# Altium schematic symbol library ICs.SchLib: 74 symbols
Pins are listed as number, name and electrical type; pins without a type are passive.

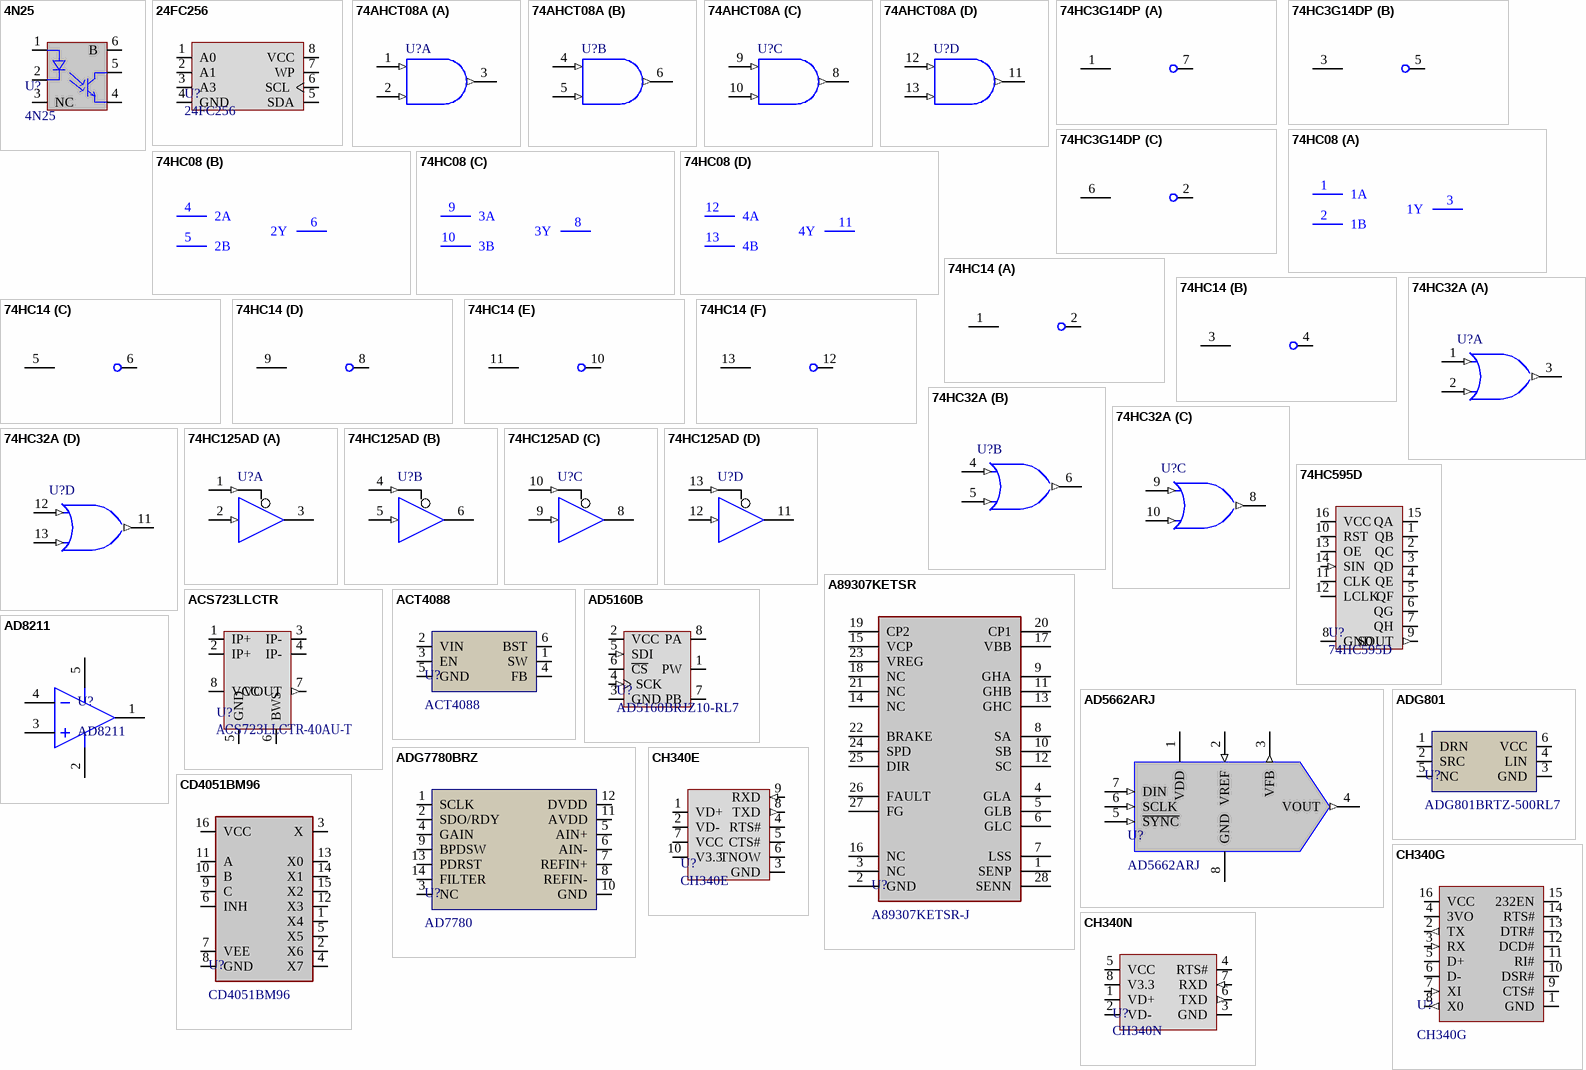
[diagram p0: symbols 4N25 to CH340N]

## 4N25
designator U?
Optoacoplador
footprint PDIP 6W (PDIP 6P WHITE)
pins: 1 A, 2 K, 3 NC, 4 E, 5 C, 6 B

## 24FC256
designator U?
256K I2C Serial EEPROM; ComponentLink1Description: AD5160B Mouser; ComponentLink1URL: https://www.mouser.mx/ProductDetail/Analog-Devices/AD5160BRJZ10-RL7?qs=NmRFExCfTkHhwD179eNY3Q==
footprint PDIP 8 (PDIP 8P IC)
pins: 1 A0, 2 A1, 3 A3, 4 GND (power), 5 SDA (power), 6 SCL (oc), 7 WP (power), 8 VCC (power)

## 74AHCT08A
designator U?
Quadruple 2-Input Positive-AND Gate; Published: 8-Jun-2000; LatestRevisionDate: 04-Mar-2005; LatestRevisionNote: Stylized 3D Model Added.; DatasheetVersion: Oct-1998; PackageVersion: Oct-1995; PackageReference: N014; Publisher: Altium Limited; PackageDescription: DIP; 14 Leads; Row Spacing 7.62 mm; Pitch 2.54 mm; ComponentLink1Description: Manufacturer Link; ComponentLink1URL: http://www.ti.com/; ComponentLink2Description: Datasheet; ComponentLink2URL: http://www-s.ti.com/sc/ds/sn74ahct08.pdf; ComponentLink3Description: Packaging Specification; ComponentLink3URL: http://focus.ti.com/lit/ml/mpdi002c/mpdi002c.pdf
footprint SOIC 14 (SOIC, 14-Leads, Body 8.65x3.90mm, Pitch 1.27mm, IPC Medium Density)
pins on every part: 7 GND (power) hidden to GND, 14 VCC (power) hidden to VCC
part A pins: 1 A (in), 2 B (in), 3 Y (out)
part B pins: 4 A (in), 5 B (in), 6 Y (out)
part C pins: 8 Y (out), 9 A (in), 10 B (in)
part D pins: 11 Y (out), 12 A (in), 13 B (in)

## 74HC3G14DP
designator U?, comment 74HC3G14DP,125
IC INVERT SCHMITT 3CH 3IN 8TSSOP
footprint TSSOP 8 Pin (TSOP, 8-Leads, Body 3.00x3.00mm, Pitch 0.65mm, IPC Medium Density)
pins on every part: 4 GND (power) hidden to GND, 8 VCC (power) hidden to VCC
part A pins: 1 1A, 7 1Y
part B pins: 3 2A, 5 2Y
part C pins: 2 3Y, 6 3A

## 74HC08
designator U?
QUADRUPLE 2-INPUT AND GATES
footprint SOIC 14 (SOIC, 14-Leads, Body 8.65x3.90mm, Pitch 1.27mm, IPC Medium Density)
footprint PDIP 14 (PDIP 14 2.54mm Pitch)
pins on every part: 7 GND (power) hidden to GND, 14 VCC (power) hidden to VCC
part A pins: 1 1A, 2 1B, 3 1Y
part B pins: 4 2A, 5 2B, 6 2Y
part C pins: 8 3Y, 9 3A, 10 3B
part D pins: 11 4Y, 12 4A, 13 4B

## 74HC14
designator U?
Hex Inverters with Schmitt-Trigger Inputs
footprint SOIC 14 (SOIC, 14-Leads, Body 8.65x3.90mm, Pitch 1.27mm, IPC Medium Density)
footprint PDIP 14 (PDIP 14 2.54mm Pitch)
pins on every part: 7 GND (power) hidden to GND, 14 VCC (power) hidden to VCC
part A pins: 1 1A, 2 1Y
part B pins: 3 2A, 4 2Y
part C pins: 5 3A, 6 3Y
part D pins: 8 4Y, 9 4A
part E pins: 10 5Y, 11 5A
part F pins: 12 6Y, 13 6A

## 74HC32A
designator U?
Quadruple 2-Input Positive-OR Gate; Published: 8-Jun-2000; LatestRevisionDate: 13-Apr-2006; LatestRevisionNote: IPC-7351 Footprint Added.; DatasheetVersion: Oct-1998; PackageVersion: Jan-1998; PackageReference: D014; Publisher: Altium Limited; PackageDescription: 14-Pin Small Outline Integrated Circuit 1.27 mm Pitch; Code_IPC: SOIC127P600-14; ComponentLink1Description: Manufacturer Link; ComponentLink1URL: http://www.ti.com/; ComponentLink2Description: Datasheet; ComponentLink2URL: http://www-s.ti.com/sc/ds/sn74ahct32.pdf; ComponentLink3Description: Packaging Specification; ComponentLink3URL: http://focus.ti.com/lit/ml/mpds177/mpds177.pdf
footprint SOIC 14 (SOIC, 14-Leads, Body 8.65x3.90mm, Pitch 1.27mm, IPC Medium Density)
pins on every part: 7 GND (power) hidden to GND, 14 VCC (power) hidden to VCC
part A pins: 1 A (in), 2 B (in), 3 Y (out)
part B pins: 4 A (in), 5 B (in), 6 Y (out)
part C pins: 8 Y (out), 9 A (in), 10 B (in)
part D pins: 11 Y (out), 12 A (in), 13 B (in)

## 74HC125AD
designator U?
Quadruple Bus Buffer Gate with 3-State Outputs; Note: Pins No 1,5,7,11,15 and 17 are not connected; Published: 8-Jun-2000; LatestRevisionDate: 17-Jul-2002; LatestRevisionNote: Re-released for DXP Platform.; DatasheetVersion: May-1997; PackageVersion: 1998; PackageReference: FK020; Publisher: Altium Limited; PackageDescription: Leadless Chip Carrier; 20 Terminals; Body 8.9 x 8.9 mm; ComponentLink1Description: Manufacturer Link; ComponentLink1URL: http://www.ti.com/; ComponentLink2Description: Datasheet; ComponentLink2URL: http://www-s.ti.com/sc/ds/sn74hc125.pdf
footprint SOIC 14 (SOIC, 14-Leads, Body 8.65x3.90mm, Pitch 1.27mm, IPC Medium Density)
pins on every part: 7 GND (power) hidden to GND, 14 VCC (power) hidden to VCC
part A pins: 1 ~{OE} (in), 2 A (in), 3 Y (hiz)
part B pins: 4 ~{OE} (in), 5 A (in), 6 Y (hiz)
part C pins: 8 Y (hiz), 9 A (in), 10 ~{OE} (in)
part D pins: 11 Y (hiz), 12 A (in), 13 ~{OE} (in)

## 74HC595D
designator U?
Shift Register Single 8-Bit Serial to Serial/Parallel 16-Pin SOIC T/R; ComponentLink1Description: Arrow; ComponentLink1URL: https://www.arrow.com/en/products/74hc595d-bj/toshiba
footprint SOIC 16 (SOIC 16P 1.27mm)
pins: 1 QB, 2 QC, 3 QD, 4 QE, 5 QF, 6 QG, 7 QH, 8 GND, 9 SOUT (out), 10 RST, 11 CLK, 12 LCLK, 13 OE (hiz), 14 SIN (in), 15 QA, 16 VCC

## A89307KETSR
designator U?, comment A89307KETSR-J
SENSORLESS 3 PHASE GATE DRIVER W
footprint QFN 5X5 28P (QFN, 28-Leads, Body 4.80x4.80mm, Pitch 0.50mm, Thermal Pad 2.90x2.90mm, IPC Medium Density)
pins: 1 SENP, 2 GND, 3 NC, 4 GLA, 5 GLB, 6 GLC, 7 LSS, 8 SA, 9 GHA, 10 SB, 11 GHB, 12 SC, 13 GHC, 14 NC, 15 VCP, 16 NC, 17 VBB, 18 NC, 19 CP2, 20 CP1, 21 NC, 22 BRAKE, 23 VREG, 24 SPD, 25 DIR, 26 FAULT, 27 FG, 28 SENN

## ACS723LLCTR
designator U?, comment ACS723LLCTR-40AU-T‎
Sensores de corriente 40A 1 canal Efecto Hall, Circuito abierto Unidireccional 8-SOIC
footprint SOIC-8PIN (IC SOIC 8 PIN SMD)
pins: 1 IP+ (power), 2 IP+ (power), 3 IP- (power), 4 IP- (power), 5 GND (power), 6 BWS (power), 7 VOUT (out), 8 VCC (power)

## ACT4088
designator U?
DC-DC Step Down Converter IC
footprint SOT23-6 PINES (SOT23, 6-Leads, Body 2.93x2.83mm, Pitch 0.95mm, IPC Medium Density)
pins: 1 SW, 2 VIN, 3 EN, 4 FB, 5 GND, 6 BST

## AD5160B
designator U?, comment AD5160BRJZ10-RL7
Potenciómetro Digital 256 steps SPI; ComponentLink1Description: AD5160B Mouser; ComponentLink1URL: https://www.mouser.mx/ProductDetail/Analog-Devices/AD5160BRJZ10-RL7?qs=NmRFExCfTkHhwD179eNY3Q==
footprint SOT23-8 PINES (SOT23, 8-Leads, Body 2.93x2.83mm, Pitch 0.95mm, IPC Medium Density)
pins: 1 PW (power), 2 VCC, 3 GND (power), 4 SCK (in), 5 SDI (in), 6 ~{CS}, 7 PB (power), 8 PA (power)

## AD5662ARJ
designator U?
16 Bit Digital to Analog Converter 1 8-MSOP; MP: AD5662ARMZ-1; MF: Analog Devices; Package: MSOP-8 Analog Devices; Check_prices: https://www.snapeda.com/parts/AD5662ARMZ-1/Analog%20Devices/view-part/407851/?ref=eda; Availability: Warning; Price: None; Purchase-URL: https://pricing.snapeda.com/search/part/AD5662ARMZ-1/?ref=eda; Value: *; SnapEDA_Link: https://www.snapeda.com/parts/AD5662ARMZ-1/Analog%20Devices/view-part/407851/?ref=snap
footprint SOT23-8 PINES (SOT23, 8-Leads, Body 2.93x2.83mm, Pitch 0.95mm, IPC Medium Density)
pins: 1 VDD (power), 2 VREF (in), 3 VFB (out), 4 VOUT (out), 5 ~{SYNC} (in), 6 SCLK (in), 7 DIN (in), 8 GND

## AD8211
designator U?
Amplificador de Medición de Corriente
footprint SOT23-5 PINES (SOT23, 5-Leads, Body 2.88x2.83mm, Pitch 0.95mm, IPC Medium Density)
pins: 1 OUT, 2 GND, 3 VIN+, 4 VIN-, 5 VCC

## ADG801
designator U?, comment ADG801BRTZ-500RL7
1:1 Digital Switch
footprint SOT23-6 PINES (SOT23, 6-Leads, Body 2.93x2.83mm, Pitch 0.95mm, IPC Medium Density)
pins: 1 DRN, 2 SRC, 3 GND, 4 LIN, 5 NC, 6 VCC

## ADG7780BRZ
designator U?, comment AD7780
ADC 24 BITS SIGMA-DELTA
footprint SOIC 14 (SOIC, 14-Leads, Body 8.65x3.90mm, Pitch 1.27mm, IPC Medium Density)
pins: 1 SCLK, 2 SDO/RDY, 3 NC, 4 GAIN, 5 AIN+, 6 AIN-, 7 REFIN+, 8 REFIN-, 9 BPDSW, 10 GND, 11 AVDD, 12 DVDD, 13 PDRST, 14 FILTER

## CD4051BM96
designator U?
MUX/DEMUX SOIC16
footprint SOIC 16 (SOIC 16P 1.27mm)
pins: 1 X4, 2 X6, 3 X, 4 X7, 5 X5, 6 INH, 7 VEE, 8 GND, 9 C, 10 B, 11 A, 12 X3, 13 X0, 14 X1, 15 X2, 16 VCC

## CH340E
designator U?
Convertidor USB Serial
footprint MSOP-10 (TSSOP, 10-Leads, Body 3.00x3.05mm, Pitch 0.50mm, IPC Medium Density)
pins: 1 VD+, 2 VD-, 3 GND, 4 RTS#, 5 CTS#, 6 TNOW, 7 VCC, 8 TXD (out), 9 RXD (in), 10 V3.3

## CH340G
designator U?
USB-Serial Converter
footprint SOIC 16 (SOIC 16P 1.27mm)
pins: 1 GND, 2 TX (out), 3 RX (in), 4 3VO, 5 D+, 6 D-, 7 XI (in), 8 X0 (out), 9 CTS#, 10 DSR#, 11 RI#, 12 DCD#, 13 DTR#, 14 RTS#, 15 232EN, 16 VCC

## CH340N
designator U?
Convertidor USB Serial
footprint SOIC-8PIN (IC SOIC 8 PIN SMD)
pins: 1 VD+, 2 VD-, 3 GND, 4 RTS#, 5 VCC, 6 TXD (out), 7 RXD (in), 8 V3.3

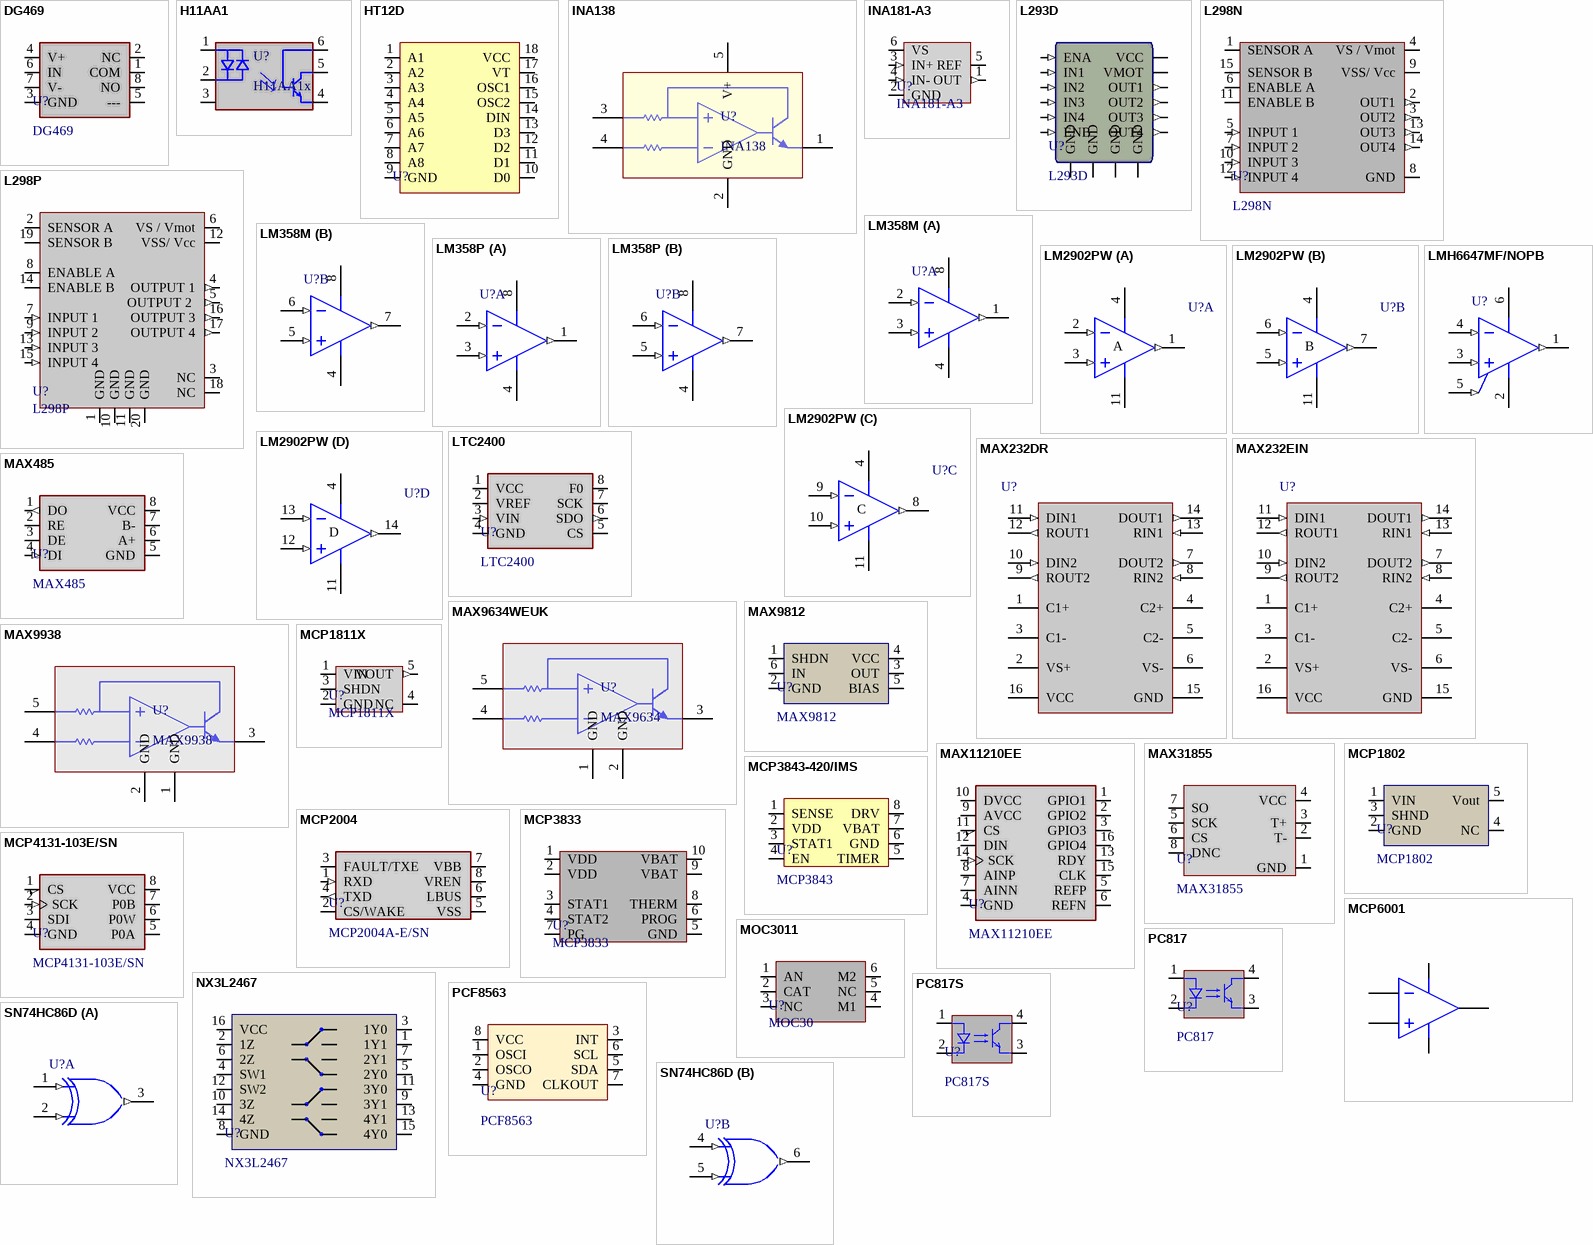
[diagram p1: symbols DG469 to SN74HC86D]

## DG469
designator U?
SPDT Automotive Siwtch
footprint SOIC-8PIN (IC SOIC 8 PIN SMD)
pins: 1 COM, 2 NC, 3 GND, 4 V+, 5 ---, 6 IN, 7 V-, 8 NO

## H11AA1
designator U?, comment H11AA1x
AC Optoacoplador
footprint PDIP 6W (PDIP 6P WHITE)
pins: 1 A, 2 K, 3 NC, 4 E, 5 C, 6 B

## HT12D
designator U?  (value not drawn)
Decoder RF 433Mhz
footprint PDIP 18 (IC PDIP 18)
pins: 1 A1, 2 A2, 3 A3, 4 A4, 5 A5, 6 A6, 7 A7, 8 A8, 9 GND, 10 D0, 11 D1, 12 D2, 13 D3, 14 DIN, 15 OSC2, 16 OSC1, 17 VT, 18 VCC

## INA138
designator U?
Amplificador de Medición de Corriente
footprint SOT23-5 PINES (SOT23, 5-Leads, Body 2.88x2.83mm, Pitch 0.95mm, IPC Medium Density)
pins: 1 OUT, 2 GND, 3 VIN+, 4 VIN-, 5 V+

## INA181-A3
designator U?
Amplificador detector de corriente
footprint SOT23-6 PINES (SOT23, 6-Leads, Body 2.93x2.83mm, Pitch 0.95mm, IPC Medium Density)
pins: 1 OUT (out), 2 GND, 3 IN+ (in), 4 IN- (in), 5 REF, 6 VS

## L293D
designator U?
Dual Motor Driver
footprint PDIP 16 (PDIP 16 2.54mm Pitch)
pins: 1 ENA (in), 2 IN1 (in), 3 OUT1 (out), 4 GND, 5 GND, 6 OUT2 (out), 7 IN2 (in), 8 VMOT, 9 ENB (in), 10 IN3 (in), 11 OUT3 (out), 12 GND, 13 GND, 14 OUT4 (out), 15 IN4 (in), 16 VCC

## L298N
designator U?
Driver DC
footprint Muitiwatt 15V (Power Multiwatt)
pins: 1 SENSOR A, 2 OUT1 (out), 3 OUT2 (out), 4 VS / Vmot, 5 INPUT 1 (in), 6 ENABLE A, 7 INPUT 2  (in), 8 GND, 9 VSS/ Vcc, 10 INPUT 3 (in), 11 ENABLE B, 12 INPUT 4 (in), 13 OUT3 (out), 14 OUT4 (out), 15 SENSOR B

## L298P
designator U?
Driver DC
footprint POWER SO-20 (SOP, 20-Leads, Body 15.90x11.00mm, Pitch 1.27mm, Thermal Pad 9.80.2x6.20.2mm, IPC Medium Density)
pins: 1 GND, 2 SENSOR A, 3 NC, 4 OUTPUT 1 (out), 5 OUTPUT 2  (out), 6 VS / Vmot, 7 INPUT 1 (in), 8 ENABLE A, 9 INPUT 2  (in), 10 GND, 11 GND, 12 VSS/ Vcc, 13 INPUT 3 (in), 14 ENABLE B, 15 INPUT 4 (in), 16 OUTPUT 3 (out), 17 OUTPUT 4 (out), 18 NC, 19 SENSOR B, 20 GND

## LM358M
designator U?
Low Power Dual Operational Amplifier, 8-pin Narrow SOIC; PartNumber: LM358M; Manufacturer: National Semiconductor; PackageTopMarking: NSZXTT*LM*358M; PowerWise: N; CompType: Amplifiers; High-Reliability: Y; DatasheetVersion: Oct-2005; PackageVersion: revM, May-2009; PackageReference: M08A; PackageDescription: SOIC Narrow, 4.9 x 3.9 x 1.45mm, 8 Lead, 1.27mm Pitch; RoHS: N; PinCount: 8; Code_JEDEC: MS-012-AA; Code_IPC: SOIC127P600-8; ComponentLink1Description: Manufacturer URL; ComponentLink1URL: http://www.national.com/; ComponentLink2Description: LM358 Datasheet; ComponentLink2URL: http://www.national.com/ds/LM/LM358.pdf; ComponentLink3Description: LM358 Web Page; ComponentLink3URL: http://www.national.com/pf/LM/LM358.html; ComponentLink4Description: M08A Package Page; ComponentLink4URL: http://www.national.com/packaging/folders/m08a.html
footprint SOIC-8PIN (IC SOIC 8 PIN SMD)
pins on every part: 4 GND (power), 8 V+ (power)
part A pins: 1 OUTA (out), 2 INA- (in), 3 INA+ (in)
part B pins: 5 INB+ (in), 6 INB- (in), 7 OUTB (out)

## LM358P
designator U?
Low Power Dual Operational Amplifier, 8-pin Narrow DIP; PartNumber: LM358M; Manufacturer: National Semiconductor; PackageTopMarking: NSZXTT*LM*358M; PowerWise: N; CompType: Amplifiers; High-Reliability: Y; DatasheetVersion: Oct-2005; PackageVersion: revM, May-2009; PackageReference: M08A; PackageDescription: SOIC Narrow, 4.9 x 3.9 x 1.45mm, 8 Lead, 1.27mm Pitch; RoHS: N; PinCount: 8; Code_JEDEC: MS-012-AA; Code_IPC: SOIC127P600-8; ComponentLink1Description: Manufacturer URL; ComponentLink1URL: http://www.national.com/; ComponentLink2Description: LM358 Datasheet; ComponentLink2URL: http://www.national.com/ds/LM/LM358.pdf; ComponentLink3Description: LM358 Web Page; ComponentLink3URL: http://www.national.com/pf/LM/LM358.html; ComponentLink4Description: M08A Package Page; ComponentLink4URL: http://www.national.com/packaging/folders/m08a.html
footprint PDIP 8 (PDIP 8P IC)
pins on every part: 4 GND (power), 8 V+ (power)
part A pins: 1 OUTA (out), 2 INA- (in), 3 INA+ (in)
part B pins: 5 INB+ (in), 6 INB- (in), 7 OUTB (out)

## LM2902PW
designator U?
Quadruple Operational Amplifier; Published: 16-Jan-2001; LatestRevisionDate: 16-Oct-2006; LatestRevisionNote: IPC-7351 Footprint Added.; DatasheetVersion: Feb-1997; PackageVersion: Feb-1999; PackageReference: PW014; Publisher: Altium Limited; PackageDescription: 14-Pin Thin Small Outline Package 0.65 mm Pitch; ComponentLink1Description: Manufacturer Link; ComponentLink1URL: http://www.ti.com/; ComponentLink2Description: Datasheet; ComponentLink2URL: http://www-s.ti.com/sc/ds/lm2902.pdf
footprint TSOP14 (TSOP, 14-Leads, Pitch 0.65mm, IPC Medium Density)
pins on every part: 4 V+ (power), 11 V- (power)
part A pins: 1 OUT (out), 2 IN- (in), 3 IN+ (in)
part B pins: 5 IN+ (in), 6 IN- (in), 7 OUT (out)
part C pins: 8 OUT (out), 9 IN- (in), 10 IN+ (in)
part D pins: 12 IN+ (in), 13 IN- (in), 14 OUT (out)
part A text: A
part B text: B
part C text: C
part D text: D

## LMH6647MF/NOPB
designator U?
Single 5.5 MHz, RRIO, Low Power, 2.5 to 5.5 V, -55 to 125 degC, 6-pin SOT23 (DBV6), Green (RoHS & no Sb/Br); Manufacturer: Texas Instruments; PartNumber: OPA341NA/250G4; CMRR(Min)(dB): 76; GBW(Typ)(MHz): 5.5; IIB(Max)(pA): 10; Iq per channel(Max)(mA): 1; Offset Drift(Typ)(uV/C): 2; Packing: SMALL T&R; Rating: Catalog; Slew Rate(Typ)(V/us): 6; Sub Family: High Output Current Amplifier (>=50mA), Low Input Bias Current Amp (<=10pA), Low Supply Voltage Amplifier (<=2.7V), Precision Amplifier; Total Supply Voltage(Min)(+5V is 5, +/-5V is 10): 2.5; DatasheetVersion: SBOS202A; PackageVersion: 4073253-5/K, 03/2006; PackageReference: DBV6; PackageDescription: 6-Pin Plastic Small Outline, Body 1.6 x 2.9 mm, Pitch 0.95 mm; Supplier 1: Digi-Key; Supplier Part Number 1: OPA341NA/250G4-ND; Supplier 2: Mouser; Supplier Part Number 2: 595-OPA341NA/250G4; Eco-Plan: Green (RoHS & no Sb/Br); Number of Channels: 1; Total Supply Voltage(Max)(+5V is 5, +/-5V is 10): 5.5; Vio (25C)(Max)(mV): 6; Mounting Technology: Surface Mount; Code_JEDEC: MO-178; ComponentLink1Description: Manufacturer URL; ComponentLink2Description: Datasheet; ComponentLink2URL: https://www.ti.com/lit/ds/symlink/lmh6647.pdf?HQS=dis-mous-null-mousermode-dsf-pf-null-wwe&ts=1663958739218&ref_url=https%253A%252F%252Fwww.mouser.mx%252F; ComponentLink3Description: Package Specification; ComponentLink3URL: http://www.ti.com/litv/pdf/mpds026h
footprint SOT23-6 PINES (SOT23, 6-Leads, Body 2.93x2.83mm, Pitch 0.95mm, IPC Medium Density)
pins: 1 OUT (out), 2 V- (power), 3 IN+ (in), 4 IN- (in), 5 SD (in), 6 V+ (power)

## LTC2400
designator U?
24 BITS ADC SERIAL
footprint SOIC-8PIN (IC SOIC 8 PIN SMD)
pins: 1 VCC, 2 VREF, 3 VIN (in), 4 GND, 5 CS, 6 SDO (out), 7 SCK, 8 F0

## MAX232DR
designator U?
Dual EIA-232 Driver / Receiver, 0 to 70 degC, 16-Pin SOIC (D), Green (RoHS & no Sb/Br); SubFamily: RS-232; Drivers Per Package: 2; Supply Voltage(s)(V): 5; ESD HBM(kV): +/-2; ICC(Max)(mA): 10; Single Supply: TRUE; DatasheetVersion: SLLS047L; PackageVersion: revM, Jun-2011; PackageReference: D16; PackageDescription: 16-Pin Plastic Small Outline Integrated Circuit, 9.9 x 3.9 mm, Pitch 1.27 mm Pitch; Receivers Per Package: 2; RS-232: TRUE; ComponentLink1Description: Manufacturer URL; ComponentLink1URL: www.ti.com; ComponentLink2Description: Datasheet; ComponentLink2URL: http://www.ti.com/general/docs/lit/getliterature.tsp?genericPartNumber=MAX232&fileType=pdf; ComponentLink3Description: Package Specification; ComponentLink3URL: http://www.ti.com/litv/pdf/mpds178g
footprint SOIC 16 (SOIC 16P 1.27mm)
pins: 1 C1+, 2 VS+ (power), 3 C1-, 4 C2+, 5 C2-, 6 VS- (power), 7 DOUT2 (out), 8 RIN2 (in), 9 ROUT2 (out), 10 DIN2 (in), 11 DIN1 (in), 12 ROUT1 (out), 13 RIN1 (in), 14 DOUT1 (out), 15 GND (power), 16 VCC (power)

## MAX232EIN
designator U?
Dual RS-232 Driver / Receiver with IEC61000-4-2 Protection, -40 to 85 degC, 16-Pin PDIP (N),  Pb-Free (RoHS); Drivers Per Package: 2; Supply Voltage(s)(V): 5; ESD HBM(kV): +/-15; ICC(Max)(mA): 10; Single Supply: TRUE; DatasheetVersion: SLLS723B; PackageVersion: revE, Dec-2002; PackageReference: N16; PackageDescription: 16-Pin Plastic Dual-In-Line Package, Row Spacing 7.62 mm, Pitch 2.54 mm; SubFamily: RS-232; Receivers Per Package: 2; RS-232: TRUE; IEC-61000-4-2 SUPPORT: TRUE; ComponentLink1Description: Manufacturer URL; ComponentLink1URL: www.ti.com; ComponentLink2Description: Datasheet; ComponentLink2URL: http://www.ti.com/general/docs/lit/getliterature.tsp?genericPartNumber=MAX232E&fileType=pdf; ComponentLink3Description: Package Specification; ComponentLink3URL: http://www.ti.com/litv/pdf/mpdi002c
footprint PDIP 16 (PDIP 16 2.54mm Pitch)
pins: 1 C1+, 2 VS+ (power), 3 C1-, 4 C2+, 5 C2-, 6 VS- (power), 7 DOUT2 (out), 8 RIN2 (in), 9 ROUT2 (out), 10 DIN2 (in), 11 DIN1 (in), 12 ROUT1 (out), 13 RIN1 (in), 14 DOUT1 (out), 15 GND (power), 16 VCC (power)

## MAX485
designator U?
RS232 TO RS485 TRANSCEIVER
footprint SOIC-8PIN (IC SOIC 8 PIN SMD)
pins: 1 DO (out), 2 RE, 3 DE, 4 DI (in), 5 GND, 6 A+, 7 B-, 8 VCC

## MAX9634WEUK
designator U?, comment MAX9634
Amplificador de Medición de Corriente
footprint SOT23-5 PINES (SOT23, 5-Leads, Body 2.88x2.83mm, Pitch 0.95mm, IPC Medium Density)
pins: 1 GND, 2 GND, 3 OUT, 4 VIN-, 5 VIN+

## MAX9812
designator U?
Audio Amplifier
footprint SC70 6 (6 Pin SMD SC70)
pins: 1 SHDN, 2 GND, 3 OUT, 4 VCC, 5 BIAS, 6 IN

## MAX9938
designator U?
Amplificador de Medición de Corriente
footprint SOT23-5 PINES (SOT23, 5-Leads, Body 2.88x2.83mm, Pitch 0.95mm, IPC Medium Density)
pins: 1 GND, 2 GND, 3 OUT, 4 RS-, 5 RS+

## MAX11210EE
designator U?
ADC 24 BITS
footprint QSOP 16 (QSOP 16 SMT)
pins: 1 GPIO1, 2 GPIO2, 3 GPIO3, 4 GND (oc), 5 REFP, 6 REFN, 7 AINN, 8 AINP, 9 AVCC, 10 DVCC, 11 CS (oe), 12 DIN, 13 RDY, 14 SCK (in), 15 CLK, 16 GPIO4

## MAX31855
designator U?
Interfaz Termopar
footprint SOIC-8PIN (IC SOIC 8 PIN SMD)
pins: 1 GND, 2 T-, 3 T+, 4 VCC, 5 SCK, 6 CS, 7 SO, 8 DNC

## MCP1802
designator U?
LDO Regulador
footprint SC-70 (SC-70 Similar a SOT23 usado en reguladores microchip)
pins: 1 VIN, 2 GND, 3 SHND, 4 NC, 5 Vout

## MCP1811X
designator U?
Ultra-Low Quiescent Current LDO Regulator / for Long-Life Battery-Powered Applications
footprint SC-70 (SC-70 Similar a SOT23 usado en reguladores microchip)
pins: 1 VIN (power), 2 GND, 3 SHDN, 4 NC, 5 VOUT (out)

## MCP2004
designator U?, comment MCP2004A-E/SN
Transceptores LIN Stand alone LIN Transceiver
footprint SOIC-8PIN (IC SOIC 8 PIN SMD)
pins: 1 RXD (in), 2 CS/WAKE, 3 FAULT/TXE, 4 TXD (out), 5 VSS (oc), 6 LBUS, 7 VBB, 8 VREN

## MCP3833
designator U?
Lipo Charguer
footprint MSOP-10 (SMD IC MSOP)
pins: 1 VDD, 2 VDD, 3 STAT1, 4 STAT2, 5 GND, 6 PROG, 7 PG, 8 THERM, 9 VBAT, 10 VBAT

## MCP3843-420/IMS
designator U?, comment MCP3843
Li-Ion Charguer
footprint MSOP 8
pins: 1 SENSE, 2 VDD, 3 STAT1, 4 EN, 5 TIMER, 6 GND, 7 VBAT, 8 DRV

## MCP4131-103E/SN
designator U?
DIGITAL POTENTIOMETER IC 10K SOIC
footprint SOIC-8PIN (IC SOIC 8 PIN SMD)
pins: 1 CS (oe), 2 SCK (in), 3 SDI, 4 GND (oc), 5 P0A, 6 P0W, 7 P0B, 8 VCC

## MCP6001
designator U?, comment MCP6001T-I/OT
Amplificador Operacional propósito general Rail to Rail 1.8V; ComponentLink1Description: MCP6001T-I/OT SOT-23; ComponentLink1URL: https://www.digikey.com/en/products/detail/microchip-technology/MCP6001T-I-OT/551760
footprint SOT23-5 PINES (SOT23, 5-Leads, Body 2.88x2.83mm, Pitch 0.95mm, IPC Medium Density)
pins: 1 OUT, 2 GND, 3 VIN+, 4 VIN-, 5 VCC

## MOC3011
designator U?, comment MOC30
Optoacoplador Triac
footprint PDIP 6W (PDIP 6P WHITE)
pins: 1 AN, 2 CAT, 3 NC, 4 M1, 5 NC, 6 M2

## NX3L2467
designator U?
Analog Switch DPDT Low Ohmic
footprint TSOP16 (TSOP, 16-Leads, Body 5.00x4.40mm, Pitch 0.65mm, IPC Medium Density)
pins: 1 1Y1, 2 1Z, 3 1Y0, 4 SW1, 5 2Y0, 6 2Z, 7 2Y1, 8 GND, 9 3Y1, 10 3Z, 11 3Y0, 12 SW2, 13 4Y1, 14 4Z, 15 4Y0, 16 VCC

## PC817
designator U?
Optoacoplador NPN
footprint PDIP 4 (IC PDIP 4 PIN)
pins: 1 A, 2 K, 3 E, 4 C

## PC817S
designator U?
Optoacoplador NPN 4 PIN SMD
footprint SOIC 4PIN (SOIC, 4-Leads, Body 5.00x4.00mm, Pitch 1.27mm, IPC Medium Density)
pins: 1 A, 2 K, 3 E, 4 C

## PCF8563
designator U?
RTC I2C
footprint SOIC-8PIN (IC SOIC 8 PIN SMD)
pins: 1 OSCI, 2 OSCO, 3 INT, 4 GND, 5 SDA, 6 SCL, 7 CLKOUT, 8 VCC

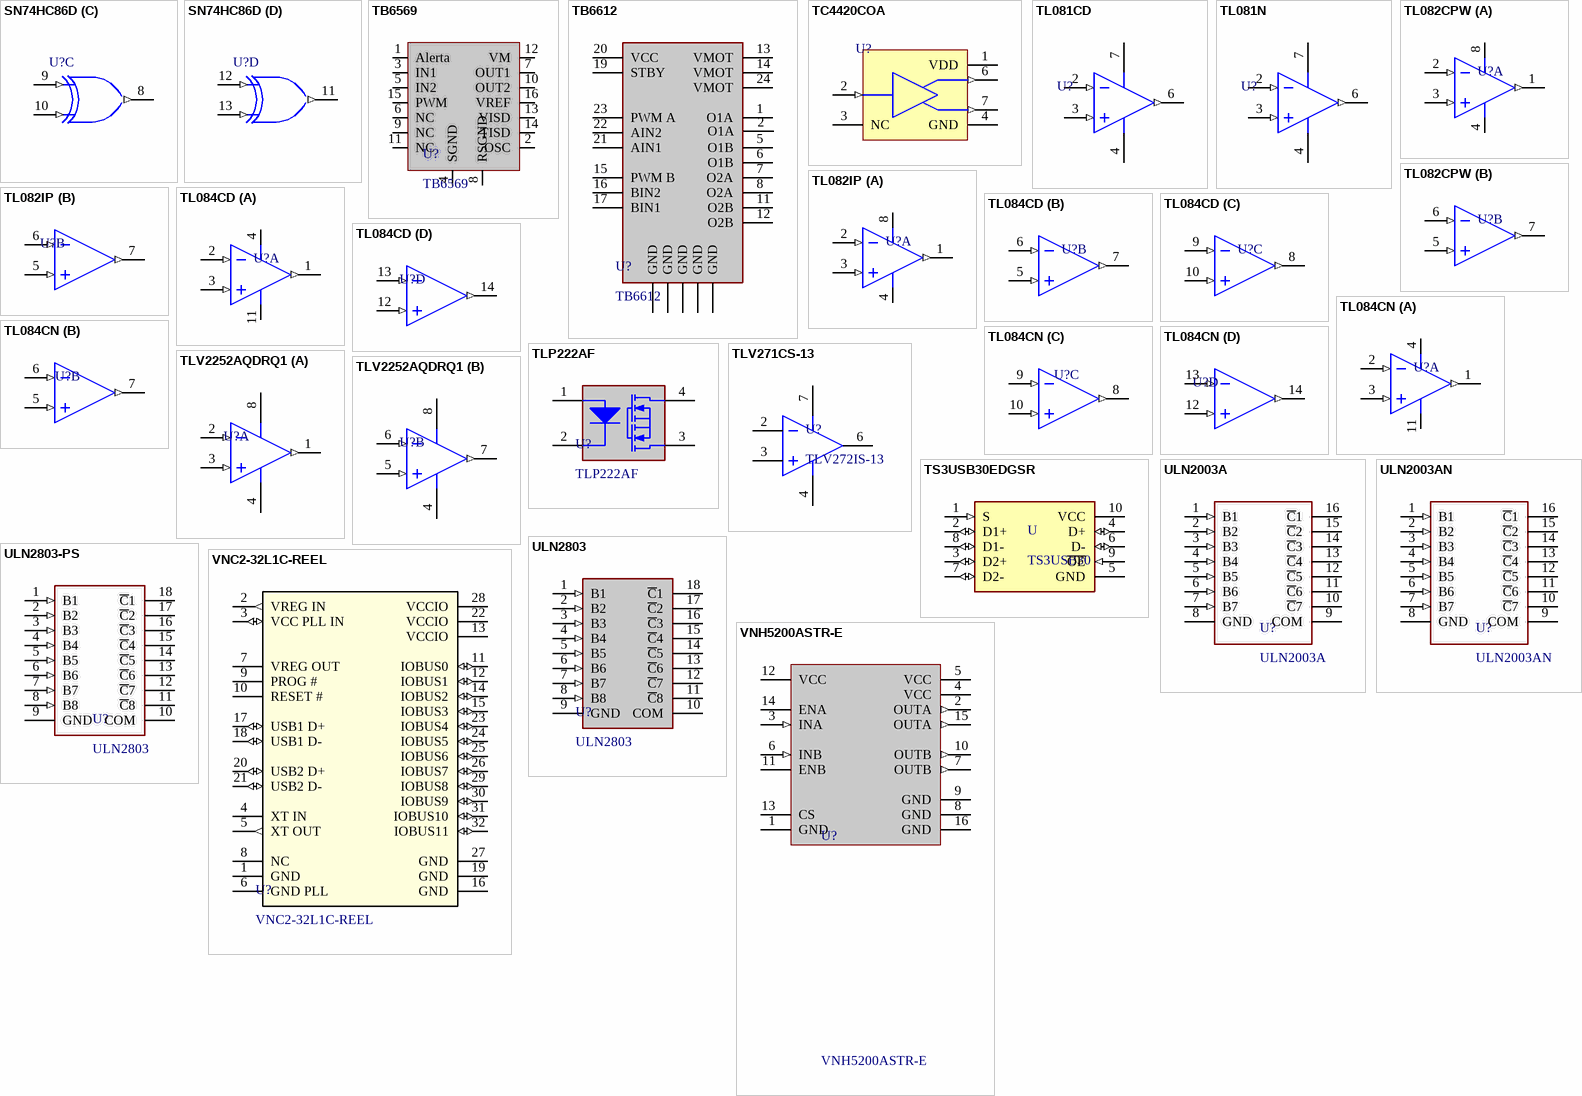
[diagram p2: symbols SN74HC86D to VNH5200ASTR-E]

## SN74HC86D
designator U?
Quadruple 2-Input Exclusive-OR Gate; Published: 8-Jun-2000; LatestRevisionDate: 13-Apr-2006; LatestRevisionNote: IPC-7351 Footprint Added.; DatasheetVersion: Aug-1999; PackageVersion: Jan-1998; PackageReference: D014; Publisher: Altium Limited; PackageDescription: 14-Pin Small Outline Integrated Circuit 1.27 mm Pitch; Code_IPC: SOIC127P600-14; ComponentLink1Description: Manufacturer Link; ComponentLink1URL: http://www.ti.com/; ComponentLink2Description: Datasheet; ComponentLink2URL: http://www-s.ti.com/sc/ds/SN54HC86.pdf
footprint SOIC 14 (SOIC, 14-Leads, Body 8.65x3.90mm, Pitch 1.27mm, IPC Medium Density)
pins on every part: 7 GND (power) hidden to GND, 14 VCC (power) hidden to VCC
part A pins: 1 A (in), 2 B (in), 3 Y (out)
part B pins: 4 A (in), 5 B (in), 6 Y (out)
part C pins: 8 Y (out), 9 A (in), 10 B (in)
part D pins: 11 Y (out), 12 A (in), 13 B (in)

## TB6569
designator U?
Puente H 4.5A
footprint TB6569 (DRIVER DC MOTOR)
pins: 1 Alerta, 2 OSC, 3 IN1, 4 SGND, 5 IN2, 6 NC, 7 OUT1, 8 RSGND, 9 NC, 10 OUT2, 11 NC, 12 VM, 13 VISD, 14 TISD, 15 PWM, 16 VREF

## TB6612
designator U?
H Bridge Driver
footprint TB6612FNG (SOP, 24-Leads, Body 8.00x5.00mm, Pitch 0.65mm, IPC Medium Density)
pins: 1 O1A, 2 O1A, 3 GND, 4 GND, 5 O1B, 6 O1B, 7 O2A, 8 O2A, 9 GND, 10 GND, 11 O2B, 12 O2B, 13 VMOT, 14 VMOT, 15 PWM B, 16 BIN2, 17 BIN1, 18 GND, 19 STBY, 20 VCC, 21 AIN1, 22 AIN2, 23 PWM A, 24 VMOT

## TC4420COA
designator U?
6A High-Speed MOSFET Driver, Non-Inverting, Commercial Temperature; Published: 29-Jan-2009; LatestRevisionDate: 01-Mar-2010; LatestRevisionNote: Sch Layout changed.; DatasheetVersion: revC, Aug-2004; PackageVersion: revBB, Aug-2009; PackageReference: SOIC-OA8; Publisher: Altium Limited; PackageDescription: 8-Lead Plastic Small Outline (OA) - Narrow, 3.90mm Body [SOIC]; Supplier 1: Digi-Key; Supplier Part Number 1: TC4420COA-ND; Supplier 2: Farnell; Supplier Part Number 2: 1292283; Code_IPC: SOIC127P600-8; ComponentLink1Description: Datasheet; ComponentLink1URL: http://ww1.microchip.com/downloads/en/DeviceDoc/21419c.pdf; ComponentLink2Description: Packaging Specification; ComponentLink2URL: http://www.microchip.com/stellent/groups/techpub_sg/documents/packagingspec/en012702.pdf; ComponentLink3Description: Microchip.com Home; ComponentLink3URL: http://www.microchip.com/
footprint SOIC-8PIN (IC SOIC 8 PIN SMD)
pins: 1 VDD (power), 2 IN (in), 3 NC, 4 GND (power), 5 GND (power), 6 OUT (out), 7 OUT (out), 8 VDD (power)

## TL081CD
designator U?
JFET-Input Operational Amplifier, 7 to 36 V, 0 to 70 degC, 8-pin SOIC (D8), Green (RoHS & no Sb/Br); Manufacturer: Texas Instruments; PartNumber: TL081CD; CMRR(Min)(dB): 70; GBW(Typ)(MHz): 3; IIB(Max)(pA): 400; Iq per channel(Max)(mA): 2.8; Number of Channels: 1; Offset Drift(Typ)(uV/C): 18; Rating: Military; Slew Rate(Typ)(V/us): 13; Sub Family: General Purpose Amplifier, High Supply Voltage Amplifier (>=30V); Total Supply Voltage(Max)(+5V is 5, +/-5V is 10): 36; Total Supply Voltage(Min)(+5V is 5, +/-5V is 10): 7; Vio (25C)(Max)(mV): 15; DatasheetVersion: SLOS081G; PackageVersion: 4040047-3/M, 06/2011; PackageReference: D8; PackageDescription: 8-Pin Plastic Small Outline, Body 4.9 x 3.9 mm, Pitch 1.27 mm; Supplier 1: Digi-Key; Supplier Part Number 1: 296-12949-5-ND; Supplier 2: Farnell; Supplier Part Number 2: 1103182; Supplier 3: Newark; Supplier Part Number 3: 08F9312; Supplier 4: Mouser; Supplier Part Number 4: 595-TL081CD; Eco-Plan: Green (RoHS & no Sb/Br); Vn at 1kHz(Typ)(nV/rtHz): 18; Mounting Technology: Surface Mount; Code_JEDEC: MS-012; ComponentLink1Description: Manufacturer URL; ComponentLink1URL: http://www.ti.com/; ComponentLink2Description: Datasheet; ComponentLink2URL: http://www.ti.com/lit/ds/symlink/tl081.pdf; ComponentLink3Description: Package Specification; ComponentLink3URL: http://www.ti.com/litv/pdf/msoi002j
footprint SOIC-8PIN (IC SOIC 8 PIN SMD)
pins: 2 IN- (in), 3 IN+ (in), 4 VCC- (power), 6 OUT (out), 7 VCC+ (power)

## TL081N
designator U?
JFET-Input Operational Amplifier, 7 to 36 V, 0 to 70 degC, 8-pin DIP (P8), Pb-Free (RoHS); Manufacturer: Texas Instruments; PartNumber: TL081BCP; CMRR(Min)(dB): 75; GBW(Typ)(MHz): 3; IIB(Max)(pA): 200; Iq per channel(Max)(mA): 2.8; Number of Channels: 1; Offset Drift(Typ)(uV/C): 18; Rating: Catalog; Slew Rate(Typ)(V/us): 13; Sub Family: General Purpose Amplifier, High Supply Voltage Amplifier (>=30V); Total Supply Voltage(Max)(+5V is 5, +/-5V is 10): 36; Total Supply Voltage(Min)(+5V is 5, +/-5V is 10): 7; DatasheetVersion: SLOS081G; PackageVersion: 4040082/E, 04/2010; PackageReference: P8; PackageDescription: 8-Pin Plastic In-Line, Body 9.59 x 6.35 mm, Pitch 2.54 mm; Supplier 1: Digi-Key; Supplier Part Number 1: 296-34260-5-ND; Supplier 2: Newark; Supplier Part Number 2: 76C9119; Supplier 3: Mouser; Supplier Part Number 3: 595-TL081BCP; Eco-Plan: Pb-Free (RoHS); Vio (25C)(Max)(mV): 3; Vn at 1kHz(Typ)(nV/rtHz): 18; Mounting Technology: Through Hole; Code_JEDEC: MS-001; ComponentLink1Description: Manufacturer URL; ComponentLink1URL: http://www.ti.com/; ComponentLink2Description: Datasheet; ComponentLink2URL: http://www.ti.com/lit/ds/symlink/tl081b.pdf; ComponentLink3Description: Package Specification; ComponentLink3URL: http://www.ti.com/litv/pdf/mpdi001b
footprint PDIP 8 (PDIP 8P IC)
pins: 2 IN- (in), 3 IN+ (in), 4 VCC- (power), 6 OUT (out), 7 VCC+ (power)

## TL082CPW
designator U?
JFET-Input Operational Amplifier, 7 to 36 V, 0 to 70 degC, 8-pin SOP (PW8), Green (RoHS & no Sb/Br); Manufacturer: Texas Instruments; PartNumber: TL082CPW; CMRR(Min)(dB): 70; GBW(Typ)(MHz): 3; IIB(Max)(pA): 400; Iq per channel(Max)(mA): 2.8; Number of Channels: 2; Offset Drift(Typ)(uV/C): 18; Rating: Catalog; Slew Rate(Typ)(V/us): 13; Sub Family: General Purpose Amplifier, High Supply Voltage Amplifier (>=30V); Total Supply Voltage(Max)(+5V is 5, +/-5V is 10): 36; Total Supply Voltage(Min)(+5V is 5, +/-5V is 10): 7; Vio (25C)(Max)(mV): 15; DatasheetVersion: SLOS081G; PackageVersion: 4040064-2/G, 02/2011; PackageReference: PW8; PackageDescription: 8-Pin Plastic Small Outline, Body 4.4 x 3 mm, Pitch 0.65 mm; Supplier 1: Digi-Key; Supplier Part Number 1: 296-26699-5-ND; Supplier 2: Mouser; Supplier Part Number 2: 595-TL082CPW; Eco-Plan: Green (RoHS & no Sb/Br); Vn at 1kHz(Typ)(nV/rtHz): 18; Mounting Technology: Surface Mount; Code_JEDEC: MO-153; ComponentLink1Description: Manufacturer URL; ComponentLink1URL: http://www.ti.com/; ComponentLink2Description: Datasheet; ComponentLink2URL: http://www.ti.com/lit/ds/symlink/tl082.pdf; ComponentLink3Description: Package Specification; ComponentLink3URL: http://www.ti.com/litv/pdf/mtss001d
footprint SOIC-8PIN (IC SOIC 8 PIN SMD)
part A pins: 1 OUT1 (out), 2 IN1- (in), 3 IN1+ (in), 4, 8
part B pins: 5 IN2+ (in), 6 IN2- (in), 7 OUT2 (out)

## TL082IP
designator U?
JFET-Input Operational Amplifier, 7 to 36 V, -40 to 85 degC, 8-pin DIP (P8), Pb-Free (RoHS); Manufacturer: Texas Instruments; PartNumber: TL082IP; CMRR(Min)(dB): 75; GBW(Typ)(MHz): 3; IIB(Max)(pA): 200; Iq per channel(Max)(mA): 2.8; Number of Channels: 2; Offset Drift(Typ)(uV/C): 18; Rating: Catalog; Slew Rate(Typ)(V/us): 13; Sub Family: General Purpose Amplifier, High Supply Voltage Amplifier (>=30V); Total Supply Voltage(Max)(+5V is 5, +/-5V is 10): 36; Total Supply Voltage(Min)(+5V is 5, +/-5V is 10): 7; Vio (25C)(Max)(mV): 6; DatasheetVersion: SLOS081G; PackageVersion: 4040082/E, 04/2010; PackageReference: P8; PackageDescription: 8-Pin Plastic In-Line, Body 9.59 x 6.35 mm, Pitch 2.54 mm; Supplier 1: Digi-Key; Supplier Part Number 1: 296-1781-5-ND; Supplier 2: Farnell; Supplier Part Number 2: 1470377; Supplier 3: Newark; Supplier Part Number 3: 60K6992; Supplier 4: Mouser; Supplier Part Number 4: 595-TL082IP; Eco-Plan: Pb-Free (RoHS); Vn at 1kHz(Typ)(nV/rtHz): 18; Mounting Technology: Through Hole; Code_JEDEC: MS-001; ComponentLink1Description: Manufacturer URL; ComponentLink1URL: http://www.ti.com/; ComponentLink2Description: Datasheet; ComponentLink2URL: http://www.ti.com/lit/ds/symlink/tl082.pdf; ComponentLink3Description: Package Specification; ComponentLink3URL: http://www.ti.com/litv/pdf/mpdi001b
footprint PDIP 8 (PDIP 8P IC)
part A pins: 1 OUT1 (out), 2 IN1- (in), 3 IN1+ (in), 4 VCC- (power), 8 VCC+ (power)
part B pins: 5 IN2+ (in), 6 IN2- (in), 7 OUT2 (out)

## TL084CD
designator U?
JFET-Input Operational Amplifier, 7 to 36 V, 0 to 70 degC, 14-pin SOIC (D14), Green (RoHS & no Sb/Br); Manufacturer: Texas Instruments; PartNumber: TL084CD; CMRR(Min)(dB): 70; GBW(Typ)(MHz): 3; IIB(Max)(pA): 400; Iq per channel(Max)(mA): 2.8; Number of Channels: 4; Offset Drift(Typ)(uV/C): 18; Rating: Catalog; Slew Rate(Typ)(V/us): 13; Sub Family: General Purpose Amplifier, High Supply Voltage Amplifier (>=30V); Total Supply Voltage(Max)(+5V is 5, +/-5V is 10): 36; Total Supply Voltage(Min)(+5V is 5, +/-5V is 10): 7; Vio (25C)(Max)(mV): 15; DatasheetVersion: SLOS081G; PackageVersion: 4040047-5/M, 06/2011; PackageReference: D14; PackageDescription: 14-Pin Plastic Small Outline, Body 8.65 x 3.90 mm, Pitch 1.27 mm; Supplier 1: Digi-Key; Supplier Part Number 1: 296-1285-5-ND; Supplier 2: Farnell; Supplier Part Number 2: 1103184; Supplier 3: Newark; Supplier Part Number 3: 36K3654; Supplier 4: Mouser; Supplier Part Number 4: 595-TL084CD; Eco-Plan: Green (RoHS & no Sb/Br); Vn at 1kHz(Typ)(nV/rtHz): 18; Mounting Technology: Surface Mount; Code_JEDEC: MS-012; ComponentLink1Description: Manufacturer URL; ComponentLink1URL: http://www.ti.com/; ComponentLink2Description: Datasheet; ComponentLink2URL: http://www.ti.com/lit/ds/symlink/tl084.pdf; ComponentLink3Description: Package Specification; ComponentLink3URL: http://www.ti.com/lit/ml/mpds177g/mpds177g.pdf
footprint SOIC 14 (SOIC, 14-Leads, Body 8.65x3.90mm, Pitch 1.27mm, IPC Medium Density)
part A pins: 1 OUT1 (out), 2 IN1- (in), 3 IN1+ (in), 4, 11
part B pins: 5 IN2+ (in), 6 IN2- (in), 7 OUT2 (out)
part C pins: 8 OUT3 (out), 9 IN3- (in), 10 IN3+ (in)
part D pins: 12 IN4+ (in), 13 IN4- (in), 14 OUT4 (out)

## TL084CN
designator U?
JFET-Input Operational Amplifier, 7 to 36 V, 0 to 70 degC, 14-pin DIP (N14), Pb-Free (RoHS); Manufacturer: Texas Instruments; PartNumber: TL084CN; CMRR(Min)(dB): 70; GBW(Typ)(MHz): 3; IIB(Max)(pA): 400; Iq per channel(Max)(mA): 2.8; Number of Channels: 4; Offset Drift(Typ)(uV/C): 18; Rating: Catalog; Slew Rate(Typ)(V/us): 13; Sub Family: General Purpose Amplifier, High Supply Voltage Amplifier (>=30V); Total Supply Voltage(Max)(+5V is 5, +/-5V is 10): 36; Total Supply Voltage(Min)(+5V is 5, +/-5V is 10): 7; Vio (25C)(Max)(mV): 15; DatasheetVersion: SLOS081G; PackageVersion: 4040049/E, 12/2002; PackageReference: N14; PackageDescription: 14-Pin Plastic In-Line, Body 19.305 x 6.35 mm, Pitch 2.54 mm; Supplier 1: Digi-Key; Supplier Part Number 1: 296-1784-5-ND; Supplier 2: Farnell; Supplier Part Number 2: 1106020; Supplier 3: Newark; Supplier Part Number 3: 08F9374; Supplier 4: Mouser; Supplier Part Number 4: 595-TL084CN; Eco-Plan: Pb-Free (RoHS); Vn at 1kHz(Typ)(nV/rtHz): 18; Mounting Technology: Through Hole; Code_JEDEC: MS-001; ComponentLink1Description: Manufacturer URL; ComponentLink1URL: http://www.ti.com/; ComponentLink2Description: Datasheet; ComponentLink2URL: http://www.ti.com/lit/ds/symlink/tl084.pdf; ComponentLink3Description: Package Specification; ComponentLink3URL: http://www.ti.com/lit/ml/mpdi002c/mpdi002c.pdf
footprint PDIP 14 (PDIP 14 2.54mm Pitch)
part A pins: 1 OUT1 (out), 2 IN1- (in), 3 IN1+ (in), 4 VCC+ (power), 11 VCC- (power)
part B pins: 5 IN2+ (in), 6 IN2- (in), 7 OUT2 (out)
part C pins: 8 OUT3 (out), 9 IN3- (in), 10 IN3+ (in)
part D pins: 12 IN4+ (in), 13 IN4- (in), 14 OUT4 (out)

## TLP222AF
designator U?
Photo Relay Coupler
footprint PDIP 4 (IC PDIP 4 PIN)
pins: 1, 2, 3, 4

## TLV271CS-13
designator U?, comment TLV272IS-13
Amplificadores operacionales - Op Amps 2.7 to16V0.55mA 13mA Rail to Rail 2-MHz
footprint SOIC-8PIN (IC SOIC 8 PIN SMD)
pins: 2 VIN-, 3 VIN+, 4 GND, 6 OUT, 7 VCC

## TLV2252AQDRQ1
designator U?
Automotive Catalog Advanced LinCMOS(TM) Rail-to-Rail Very Low-Power Operational Amplifier, 2.7 to 16 V, -40 to 125 degC, 8-pin SOIC (D8), Green (RoHS & no Sb/Br); Manufacturer: Texas Instruments; PartNumber: TLV2252AQDRQ1; CMRR(Min)(dB): 65; GBW(Typ)(MHz): 0.187; IIB(Max)(pA): 60; Iq per channel(Max)(mA): 0.0625; Number of Channels: 2; Offset Drift(Typ)(uV/C): 0.5; Packing: LARGE T&R; Slew Rate(Typ)(V/us): 0.1; Sub Family: Low Supply Voltage Amplifier (<=2.7V), Precision Amplifier; Total Supply Voltage(Max)(+5V is 5, +/-5V is 10): 16; Total Supply Voltage(Min)(+5V is 5, +/-5V is 10): 2.7; Vio (25C)(Max)(mV): 0.85; DatasheetVersion: SGLS192B; PackageVersion: 4040047-3/M, 06/2011; PackageReference: D8; PackageDescription: 8-Pin Plastic Small Outline, Body 4.9 x 3.9 mm, Pitch 1.27 mm; Supplier 1: Digi-Key; Supplier Part Number 1: 296-18022-2-ND; Supplier 2: Digi-Key; Supplier Part Number 2: 296-18022-1-ND; Supplier 3: Digi-Key; Supplier Part Number 3: 296-18022-6-ND; Supplier 4: Mouser; Supplier Part Number 4: 595-TLV2252AQDRQ1; Eco-Plan: Green (RoHS & no Sb/Br); Rating: Automotive; Mounting Technology: Surface Mount; Code_JEDEC: MS-012; ComponentLink1Description: Manufacturer URL; ComponentLink1URL: http://www.ti.com/; ComponentLink2Description: Datasheet; ComponentLink2URL: http://www.ti.com/lit/ds/symlink/tlv2252a-q1.pdf; ComponentLink3Description: Package Specification; ComponentLink3URL: http://www.ti.com/litv/pdf/msoi002j
footprint SOIC-8PIN (IC SOIC 8 PIN SMD)
pins on every part: 4 VDD-/GND (power), 8 VDD+ (power)
part A pins: 1 OUT1 (out), 2 IN1- (in), 3 IN1+ (in)
part B pins: 5 IN2+ (in), 6 IN2- (in), 7 OUT2 (out)

## TS3USB30EDGSR
designator U, comment TS3USB30
High-Speed USB 2.0 1:2 Mux/Demux Switch With Single Enable and ESD Protection 10-VSSOP -40 to 85; MP: TS3USB30EDGSR; MF: Texas Instruments; DigiKey-Purchase-URL: https://snapeda.com/shop?store=DigiKey&id=225177; Texas_Instruments-Purchase-URL: https://snapeda.com/shop?store=Texas+Instruments&id=225177; Package: VSSOP-10 Texas Instruments; Availability: Good; SnapEDA_Link: https://www.snapeda.com/parts/TS3USB30EDGSR/Texas%20Instruments/view-part/225177/?ref=snap; Price: None; Mouser-Purchase-URL: https://snapeda.com/shop?store=Mouser&id=225177; Value: *
footprint MSOP-10 (TSSOP, 10-Leads, Body 3.00x3.05mm, Pitch 0.50mm, IPC Medium Density)
pins: 1 S (in), 2 D1+ (io), 3 D2+ (io), 4 D+ (io), 5 GND (power), 6 D- (io), 7 D2- (io), 8 D1- (io), 9 ~{OE} (in), 10 VCC (power)

## ULN2003A
designator U?
SMD Arreglo de Transistores Darlington
footprint SOIC 16 (SOIC 16P 1.27mm)
pins: 1 B1 (in), 2 B2 (in), 3 B3 (in), 4 B4 (in), 5 B5 (in), 6 B6 (in), 7 B7 (in), 8 GND (power), 9 COM, 10 ~{C}7 (oc), 11 ~{C}6 (oc), 12 ~{C}5 (oc), 13 ~{C}4 (oc), 14 ~{C}3 (oc), 15 ~{C}2 (oc), 16 ~{C}1 (oc)

## ULN2003AN
designator U?
Arreglo de Transistores Darlington DIP 7 CH
footprint PDIP 16 (PDIP 16 2.54mm Pitch)
pins: 1 B1 (in), 2 B2 (in), 3 B3 (in), 4 B4 (in), 5 B5 (in), 6 B6 (in), 7 B7 (in), 8 GND (power), 9 COM, 10 ~{C}7 (oc), 11 ~{C}6 (oc), 12 ~{C}5 (oc), 13 ~{C}4 (oc), 14 ~{C}3 (oc), 15 ~{C}2 (oc), 16 ~{C}1 (oc)

## ULN2803
designator U?
Arreglo Transistores Darlington
footprint PDIP 18 (IC PDIP 18)
pins: 1 B1 (in), 2 B2 (in), 3 B3 (in), 4 B4 (in), 5 B5 (in), 6 B6 (in), 7 B7 (in), 8 B8 (in), 9 GND (power), 10 COM, 11 ~{C}8 (oc), 12 ~{C}7 (oc), 13 ~{C}6 (oc), 14 ~{C}5 (oc), 15 ~{C}4 (oc), 16 ~{C}3 (oc), 17 ~{C}2 (oc), 18 ~{C}1 (oc)

## ULN2803-PS
designator U?, comment ULN2803
SMD Arreglo de Transistores Darlington
footprint SOIC 18P (SOIC, 18-Leads, Body 11.55x7.50mm, Pitch 1.27mm, IPC Medium Density)
pins: 1 B1 (in), 2 B2 (in), 3 B3 (in), 4 B4 (in), 5 B5 (in), 6 B6 (in), 7 B7 (in), 8 B8 (in), 9 GND (power), 10 COM, 11 ~{C}8 (oc), 12 ~{C}7 (oc), 13 ~{C}6 (oc), 14 ~{C}5 (oc), 15 ~{C}4 (oc), 16 ~{C}3 (oc), 17 ~{C}2 (oc), 18 ~{C}1 (oc)

## VNC2-32L1C-REEL
designator U?
USB Vinculum-II Dual Host/Device Controller IC, UART/SPI, 8-bit FIFO, PWM, DMA, Timers, GPIO, Embedded Flash/RAM, LQFP-32; Mfr_Name: FTDI, Future Technology Devices International Ltd; RefDes: RefDes; Type: Type
footprint LQFP_C2-32L1C-REEL_FTD-M
pins: 1 GND (power), 2 VREG IN (out), 3 VCC PLL IN (io), 4 XT IN, 5 XT OUT (out), 6 GND PLL (power), 7 VREG OUT, 8 NC, 9 PROG #, 10 RESET #, 11 IOBUS0 (io), 12 IOBUS1 (io), 13 VCCIO (power), 14 IOBUS2 (io), 15 IOBUS3 (io), 16 GND (power), 17 USB1 D+ (io), 18 USB1 D- (io), 19 GND (power), 20 USB2 D+ (io), 21 USB2 D- (io), 22 VCCIO (power), 23 IOBUS4 (io), 24 IOBUS5 (io), 25 IOBUS6 (io), 26 IOBUS7 (io), 27 GND (power), 28 VCCIO (power), 29 IOBUS8 (io), 30 IOBUS9 (io), 31 IOBUS10 (io), 32 IOBUS11 (io)

## VNH5200ASTR-E
designator U?
Automotive fully integrated H-bridge motor driver; SubFamily: RS-232; Drivers Per Package: 2; Supply Voltage(s)(V): 5; ESD HBM(kV): +/-2; ICC(Max)(mA): 10; Single Supply: TRUE; PackageReference: D16; PackageDescription: 16-Pin Plastic Small Outline Integrated Circuit, 9.9 x 3.9 mm, Pitch 1.27 mm Pitch; Receivers Per Package: 2; RS-232: TRUE; ComponentLink1Description: Manufacturer URL; ComponentLink1URL: https://estore.st.com/en/; ComponentLink2Description: Datasheet; ComponentLink2URL: https://www.st.com/resource/en/datasheet/vnh5200as-e.pdf; ComponentLink3Description: Package Specification; ComponentLink3URL: https://estore.st.com/en/vnh5200astr-e-cpn.html; DatasheetVersion: SLLS047L; PackageVersion: revM, Jun-2011
footprint SOIC 16 (SOIC 16P 1.27mm)
pins: 1 GND (power), 2 OUTA (out), 3 INA (in), 4 VCC (power), 5 VCC (power), 6 INB (in), 7 OUTB (out), 8 GND, 9 GND, 10 OUTB (out), 11 ENB, 12 VCC (power), 13 CS, 14 ENA, 15 OUTA (out), 16 GND (power)